# Altium footprint library Relay.PcbLib: 1 footprints
Each footprint in its own frame and in the unit in brackets; x right, y up, seen from the top. Pads: shape width x height; smd on the part's side, far side on the other; paste and mask are expansions set on the pad; w line width, h text height; cw(c..) or ccw(c..) is an arc to the next point about the centre after c.
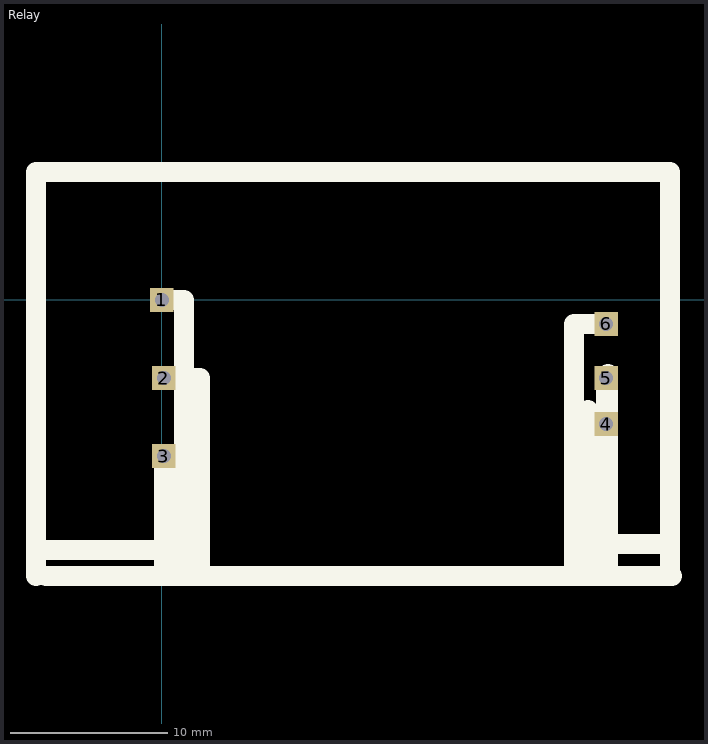
[diagram p0: the footprint, top view; thin cyan lines are the x and y axes]

## Relay [mm]
pads (6):
  rect 1.5x1.5 hole 0.9: 1(0,0) 2(0.127,-4.953) 3(0.127,-9.906) 4(28.194,-7.874) 5(28.194,-4.953) 6(28.194,-1.524)
Top Overlay:
  lines w1.278: -8.001,-17.526 -8.001,8.128 32.258,8.128 32.258,-17.399 32.385,-17.526 -7.366,-17.526 ; -7.874,-15.875 0.127,-15.875 ; 0,-4.953 2.413,-4.953 ; 0.127,-17.526 0.127,-10.414 ; 0.127,0 1.397,0 1.397,-17.145 ; 2.413,-17.145 2.413,-5.207 ; 26.162,-17.272 26.162,-1.524 28.067,-1.524 ; 27.051,-17.145 27.051,-6.985 ; 28.194,-17.272 28.194,-5.08 ; 28.321,-17.526 28.321,-4.699 ; 28.321,-15.494 32.258,-15.494